# Altium footprint library MLACHL_L.PCBLIB: 254 footprints (part 7 of 16)
Each footprint in its own frame and in the unit in brackets; x right, y up, seen from the top. Pads: shape width x height; smd on the part's side, far side on the other; paste and mask are expansions set on the pad; w line width, h text height; cw(c..) or ccw(c..) is an arc to the next point about the centre after c.
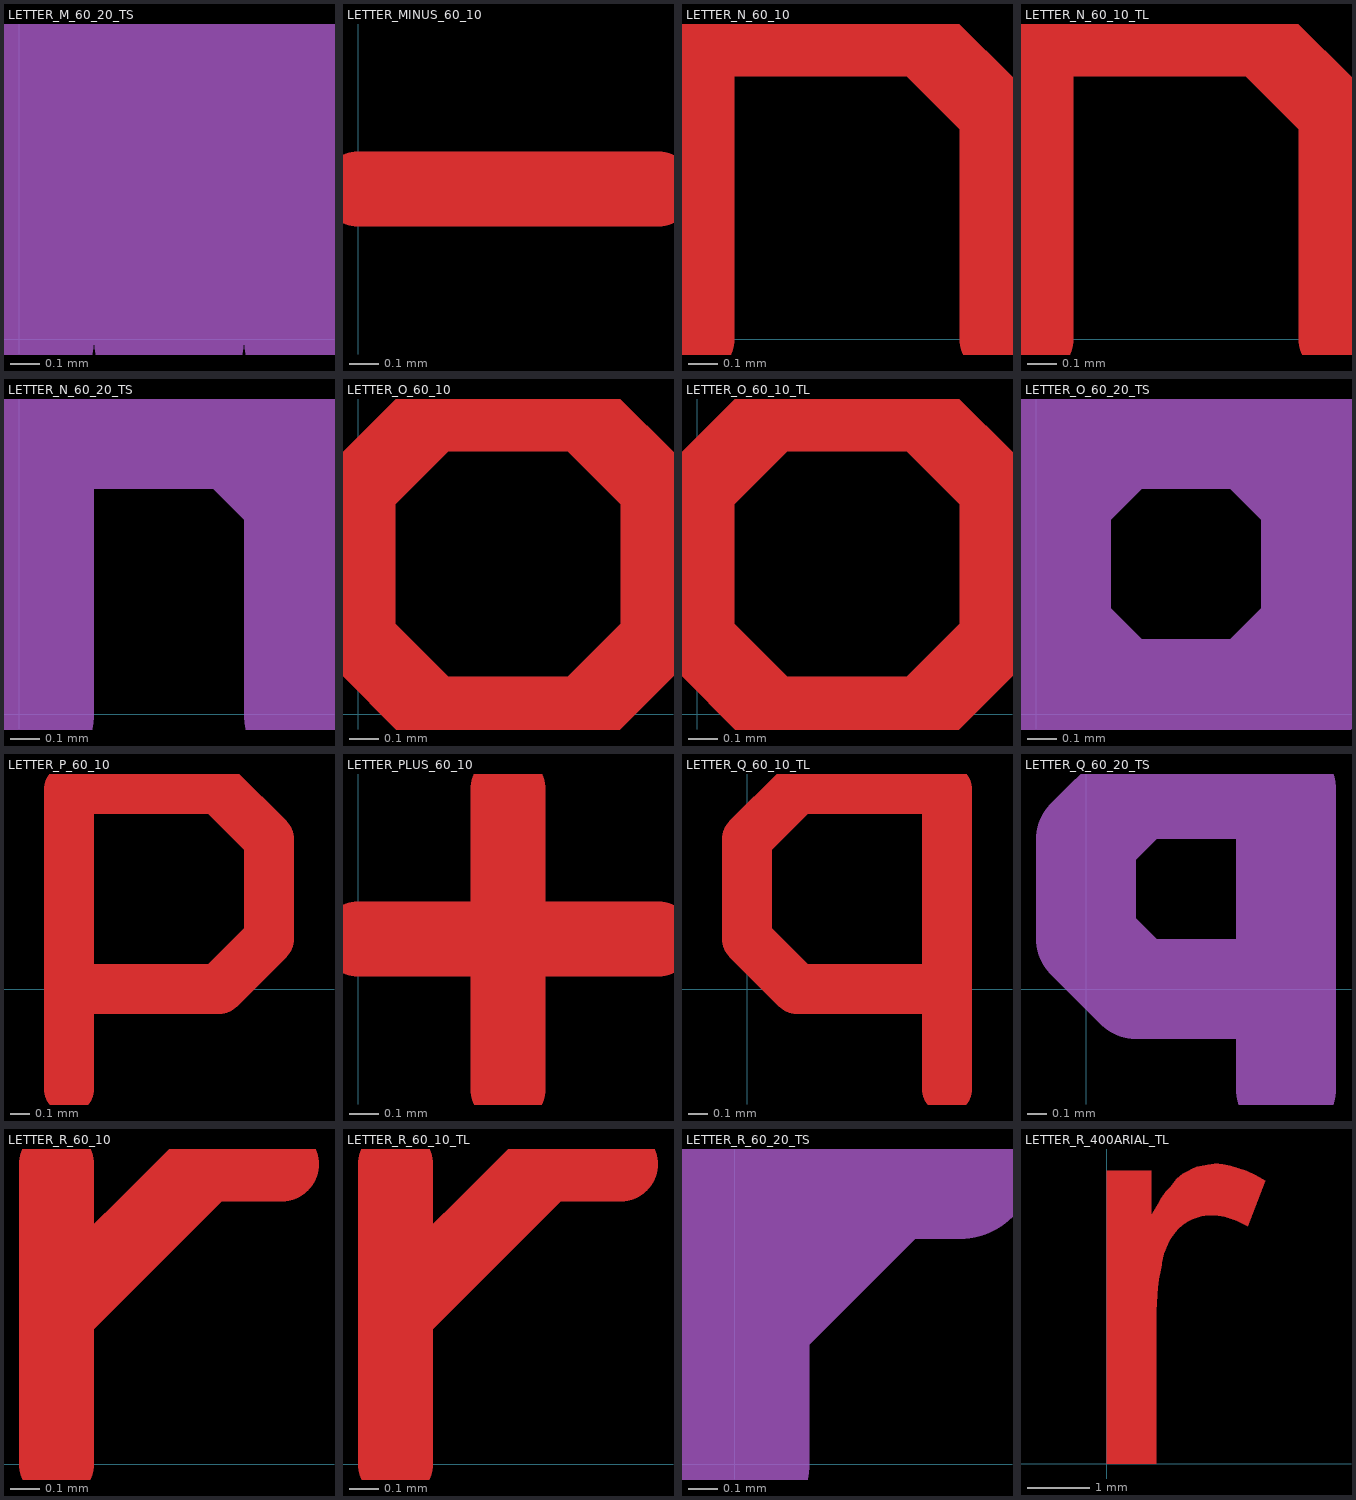
[diagram p6: the footprints below, top view; thin cyan lines are the x and y axes]

## LETTER_M_60_20_TS [mm]
TopSolder:
  lines w0.508: 0,0 0,1.016 0.254,1.016 0.508,0.762 ; 0.508,0 0.508,0.762 ; 1.016,0 1.016,0.762 0.762,1.016 0.508,0.762

## LETTER_MINUS_60_10 [mm]
TopLayer:
  lines w0.254: 0,0.762 1.016,0.762
TopSolder:
  lines w0.508: 0,0.762 1.016,0.762

## LETTER_N_60_10 [mm]
TopLayer:
  lines w0.254: 0,0 0,1.016 0.762,1.016 1.016,0.762 1.016,0
TopSolder:
  lines w0.508: 0,0 0,1.016 0.762,1.016 1.016,0.762 1.016,0

## LETTER_N_60_10_TL [mm]
TopLayer:
  lines w0.254: 0,0 0,1.016 0.762,1.016 1.016,0.762 1.016,0

## LETTER_N_60_20_TS [mm]
TopSolder:
  lines w0.508: 0,0 0,1.016 0.762,1.016 1.016,0.762 1.016,0

## LETTER_O_60_10 [mm]
TopLayer:
  lines w0.254: 0,0.254 0,0.762 0.254,1.016 0.762,1.016 1.016,0.762 1.016,0.254 0.762,0 0.254,0 0,0.254
TopSolder:
  lines w0.508: 0,0.254 0,0.762 0.254,1.016 0.762,1.016 1.016,0.762 1.016,0.254 0.762,0 0.254,0 0,0.254

## LETTER_O_60_10_TL [mm]
TopLayer:
  lines w0.254: 0,0.254 0,0.762 0.254,1.016 0.762,1.016 1.016,0.762 1.016,0.254 0.762,0 0.254,0 0,0.254

## LETTER_O_60_20_TS [mm]
TopSolder:
  lines w0.508: 0,0.254 0,0.762 0.254,1.016 0.762,1.016 1.016,0.762 1.016,0.254 0.762,0 0.254,0 0,0.254

## LETTER_P_60_10 [mm]
TopLayer:
  lines w0.254: 0,-0.508 0,1.016 0.762,1.016 1.016,0.762 1.016,0.254 0.762,0 0,0
TopSolder:
  lines w0.508: 0,-0.508 0,1.016 0.762,1.016 1.016,0.762 1.016,0.254 0.762,0 0,0
3D body: height 0.2, standoff 0, extent -0.127,-0.127 0.889,1.143

## LETTER_PLUS_60_10 [mm]
TopLayer:
  lines w0.254: 0,0.762 1.016,0.762 ; 0.508,0.254 0.508,1.27
TopSolder:
  lines w0.508: 0,0.762 1.016,0.762 ; 0.508,0.254 0.508,1.27

## LETTER_Q_60_10_TL [mm]
TopLayer:
  lines w0.254: 1.016,-0.508 1.016,1.016 0.254,1.016 0,0.762 0,0.254 0.254,0 1.016,0
3D body: height 0.3, standoff 0, extent -0.127,-0.635 1.143,1.143

## LETTER_Q_60_20_TS [mm]
TopSolder:
  lines w0.508: 1.016,-0.508 1.016,1.016 0.254,1.016 0,0.762 0,0.254 0.254,0 1.016,0

## LETTER_R_60_10 [mm]
TopLayer:
  lines w0.254: 0,0 0,1.016 ; 0,0.508 0.508,1.016 0.762,1.016
TopSolder:
  lines w0.508: 0,0 0,1.016 ; 0,0.508 0.508,1.016 0.762,1.016
3D body: height 0.2, standoff 0, extent -0.127,-0.127 0.889,1.143

## LETTER_R_60_10_TL [mm]
TopLayer:
  lines w0.254: 0,0 0,1.016 ; 0,0.508 0.508,1.016 0.762,1.016
3D body: height 0.2, standoff 0, extent -0.127,-0.127 0.889,1.143

## LETTER_R_60_20_TS [mm]
TopSolder:
  lines w0.508: 0,0 0,1.016 ; 0,0.508 0.508,1.016 0.762,1.016

## LETTER_R_400ARIAL_TL [mm]
TopLayer:
  region: 0,0 0.803,0 0.803,2.471 0.826,2.85 0.841,2.964 0.851,3.02 0.864,3.078 0.874,3.127 0.886,3.208 0.892,3.244 0.922,3.383 1.011,3.592 1.062,3.67 1.151,3.782 1.219,3.848 1.3,3.899 1.379,3.94 1.527,3.988 1.646,4.008 1.687,4.008 1.796,3.998 1.908,3.978 2.098,3.917 2.261,3.84 2.271,3.83 2.56,4.564 2.4,4.653 2.25,4.722 1.991,4.803 1.875,4.823 1.808,4.831 1.735,4.831 1.633,4.821 1.45,4.783 1.379,4.752 1.311,4.714 1.26,4.691 1.229,4.671 1.133,4.595 1.024,4.46 0.958,4.381 0.884,4.277 0.833,4.194 0.787,4.112 0.734,4.028 0.724,4.018 0.724,4.722 0,4.722